# Altium integrated library Transformer.IntLib: 10 symbols
Pins are listed as number, name and electrical type; pins without a type are passive.

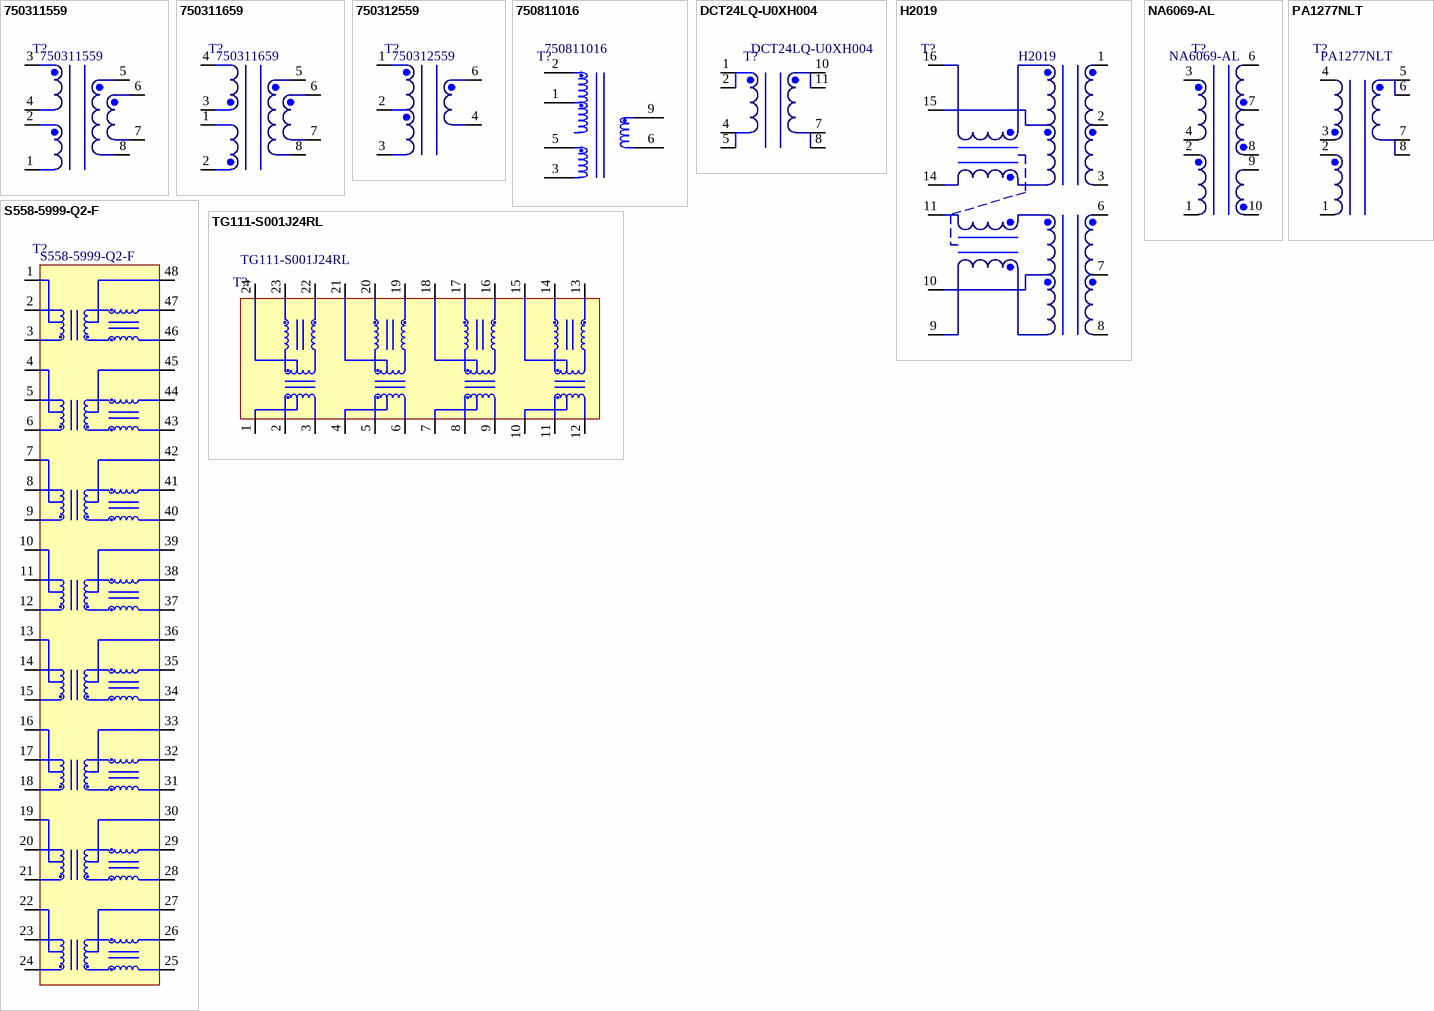
[diagram p0: symbols 750311559 to TG111-S001J24RL]

## 750311559
designator T?  MPN: 750311559  (hidden comment: *)
FLYBACK TRANSFORMER WE-FB LT8300; MFT: Wurth Electronics Midcom; TYPE: Surface Mount; VALUE: 750311559
footprint 750311559
pins: 1, 2, 3, 4, 5, 6, 7, 8

## 750311659
designator T?  MPN: 750311659  (hidden comment: *)
FLYBACK TRANSFORMER WE-FB LT8300; MFT: Wurth Electronics Midcom; TYPE: Surface Mount; VALUE: 750311659
footprint 750311659
pins: 1, 2, 3, 4, 5, 6, 7, 8

## 750312559
designator T?  MPN: 750312559  (hidden comment: *)
FLYBACK TRANSFORMER WE-FB LT8300; MFT: Wurth Electronics Midcom; TYPE: Surface Mount; VALUE: 750312559
footprint 750312559
pins: 1, 2, 3, 4, 6

## 750811016
designator T?  MPN: 750811016  (hidden comment: *)
Transformers Audio & Signal MID-UNIT PI Offline 1.87mH 2.77Ohm; MFT: Midcom / Wurth Electronics; RATING: 6 W 450 mA; TYPE: Through Hole; VALUE: 750811016
footprint 750811016
pins: 1, 2, 3, 5, 6, 9

## DCT24LQ-U0XH004
designator T?  MPN: DCT24LQ-U0XH004  (hidden comment: *)
Transformer, Custom, Flyback; MFT: TDK; TYPE: Surface Mount; RATING: 20 uH; VALUE: DCT24LQ-U0XH004
footprint DCT24LQ-U0XH004
pins: 1, 2, 4, 5, 7, 8, 10, 11

## H2019
designator T?  MPN: H2019  (hidden comment: *)
Transformers Audio & Signal VOIP SGL W/SHARED CM C'S; MFT: Pulse; VALUE: H2019; TYPE: SMD; RATING: *; FUNCTION: *; DNP: *
footprint H2019
pins: 1, 2, 3, 6, 7, 8, 9, 10, 11, 14, 15, 16

## NA6069-AL
designator T?  MPN: NA6069-AL  (hidden comment: *)
Transformer, Flyback; MFT: Coilcraft; VALUE: NA6069-AL; TYPE: Surface Mount; RATING: *; FUNCTION: *; DNP: *
footprint NA6069-AL
pins: 1, 2, 3, 4, 6, 7, 8, 9, 10

## PA1277NLT
designator T?  MPN: PA1277NLT  (hidden comment: *)
XFRMR 3.3V 10W 20.4UH POE EP10; MFT: Pulse Electronics Corporation; VALUE: PA1277NLT; TYPE: SMD; RATING: 3.3V 10W; FUNCTION: *; DNP: *
footprint PA1277NLT
pins: 1, 2, 3, 4, 5, 6, 7, 8

## S558-5999-Q2-F
designator T?  MPN: S558-5999-Q2-F  (hidden comment: *)
MODULE XFRMR LAN GIGABIT 48P SMD; MFT: Bel Fuse Inc.; VALUE: S558-5999-Q2-F; LOAD: *; TYPE: SMD; RATING: *
footprint S558-5999-Q2-F
pins: 1, 2, 3, 4, 5, 6, 7, 8, 9, 10, 11, 12, 13, 14, 15, 16, 17, 18, 19, 20, 21, 22, 23, 24, 25, 26, 27, 28, 29, 30, 31, 32, 33, 34, 35, 36, 37, 38, 39, 40, 41, 42, 43, 44, 45, 46, 47, 48

## TG111-S001J24RL
designator T?  MPN: TG111-S001J24RL  (hidden comment: *)
Transformers Audio & Signal Isolation Module; MFT: HALO Electronics; VALUE: TG111-S001J24RL; TYPE: Surface Mount
footprint TG111-S001J24RL
pins: 1, 2, 3, 4, 5, 6, 7, 8, 9, 10, 11, 12, 13, 14, 15, 16, 17, 18, 19, 20, 21, 22, 23, 24